# Altium integrated library Infineon_Power_DC-DC-Converter.IntLib: 32 symbols (part 3 of 3)
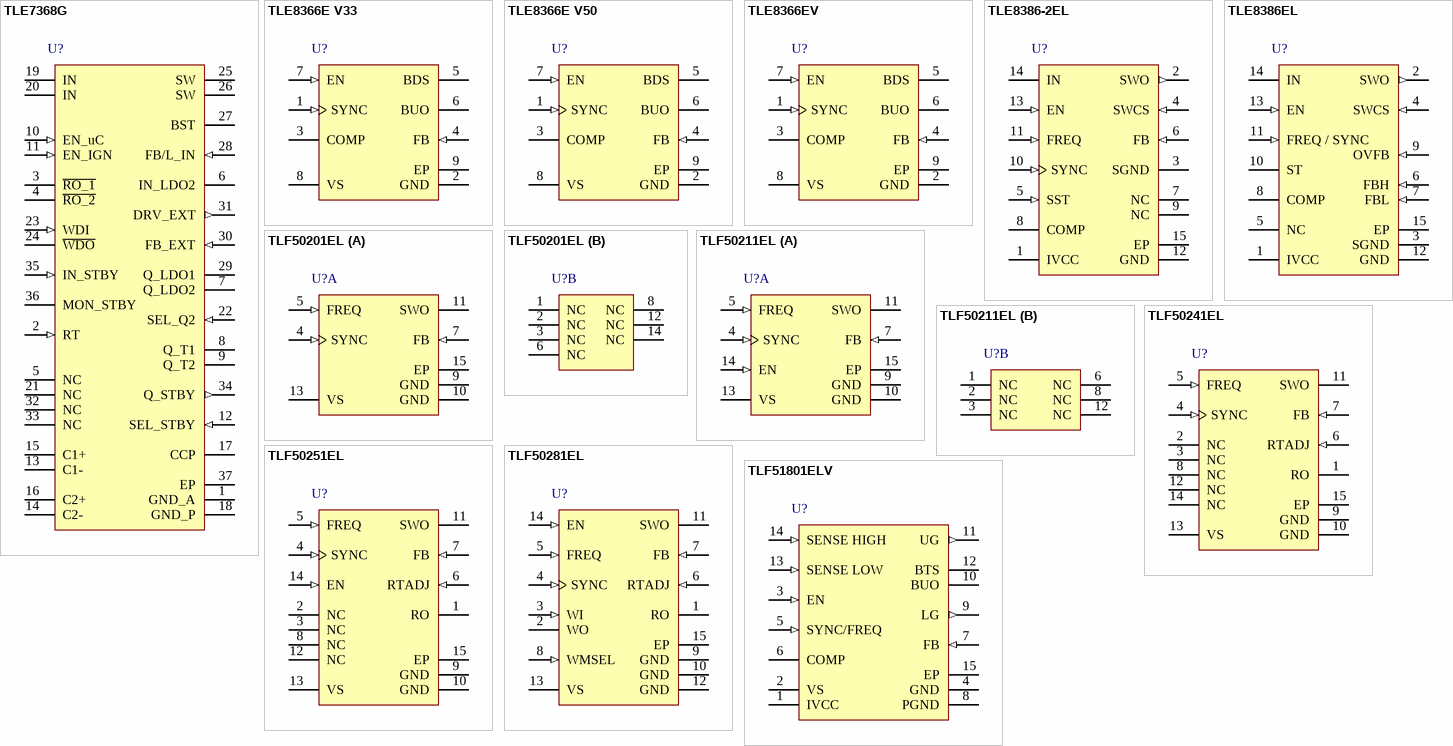
[diagram p3: symbols TLE7368G to TLF51801ELV]

## TLE7368G
designator U?
Next Generation Micro Controller Supply, -40 to 150 degC, PG-DSO-36-26, Reel; Manufacturer: Infineon; PartNumber: TLE7368G; Green: FALSE; IQ (max): 2,500 mA; Iq (typ): 120 uA; Output: Linear (Buck Preregulator); DatasheetVersion: Rev. 2.1; PackageVersion: Aug-09; PackageReference: PG-DSO-36-26; PackageDescription: 36-Pin Plastic (Green) Dual Small Outline Package, 15.9 x 11 mm Body, 0.65 mm Pitch; Supplier 1: Mouser; Supplier Part Number 1: 726-TLE7368G; Supplier 2: Digi-Key; Supplier Part Number 2: TLE7368GTR-ND; Supplier 3: Digi-Key; Supplier Part Number 3: TLE7368GCT-ND; Supplier 4: Digi-Key; Supplier Part Number 4: TLE7368GDKR-ND; Halogen-free: FALSE; Packing: Reel; Mounting Technology: Surface Mount; ComponentLink1Description: Manufacturer URL; ComponentLink1URL: http://www.infineon.com/; ComponentLink2Description: Datasheet; ComponentLink2URL: http://www.infineon.com/dgdl/DCDC-Converter-TLE7368-Data-Sheet-V21-Infineon.pdf?folderId=db3a304314dca3890115039cf70d0bf0&fileId=db3a3043163797a601163918026f01cf&location=en.Products.Power_Management_ICs.DC_DC.DC_DC-Converter__Automotive_.DATASHEET.DCDC-Converter-TLE7368-Data-Sheet-V21-Infineon.pdf; ComponentLink3Description: Package Specification; ComponentLink3URL: http://www.infineon.com/dgdl/ITS4880R_DS_11.pdf?folderId=db3a304412b407950112b408e8c90004&fileId=db3a304412b407950112b4295fb340cf&sId=db3a30433db6f09f013dc85930135028
footprint INF-PG-DSO-36-26_N (SOP, 36-Leads, Body 15.9x11mm, Pitch 0.65mm, Thermal Pad 16x6mm, IPC Medium Density)
footprint INF-PG-DSO-36-26_L (SOP, 36-Leads, Body 15.9x11mm, Pitch 0.65mm, Thermal Pad 16x6mm, IPC High Density)
footprint INF-PG-DSO-36-26_M (SOP, 36-Leads, Body 15.9x11mm, Pitch 0.65mm, Thermal Pad 16x6mm, IPC Low Density)
pins: 1 GND_A (power) "Analog ground connection; Connect to heatslug resp. exposed pad.", 2 RT (in) "Reset and watchdog timing pin; Connect a ceramic capacitor to GND to determine the time base for the reset delay circuits and the watchdog cycle time", 3 ~{RO_1} (oc) "Reset output Q_LDO1; Open drain output, active low. Connect an external 10 kOhm pull-up resistor to microcontroller I/O voltage.", 4 ~{RO_2} (oc) "Reset output Q_LDO2 and FB_EXT; Open drain output, active low. Connect an external 10 kOhm pull-up resistor to microcontroller I/O voltage", 5 NC "Internally not connected; Connect to GND_A", 6 IN_LDO2 (power) "LDO2 input; Connect this pin straight to the Buck converter output or add a dropper in between to reduce power dissipation on the chip.", 7 Q_LDO2 (power) "Voltage regulator 2 output; 3.3 V or 2.6 V, depending on the state of SEL_LDO2. Block to GND with capacitor for stable regulator operation; selection of capacitor CQ_LDO2 according to Chapter 4.4 and Chapter 6.", 8 Q_T1 (power) "Tracking regulator 1 output; Block to GND with capacitor for stable regulator operation; selection of capacitor CQ_T1 according to Chapter 4.4 and Chapter 6.", 9 Q_T2 (power) "Tracking regulator 2 output; Block to GND with capacitor for stable regulator operation; selection of capacitor CQ_T2 according to Chapter 4.4 and Chapter 6.", 10 EN_uC (in) "Enable input microcontroller; High level enables / low level disables the IC except the stand-by regulators; Integrated pull-down resistor", 11 EN_IGN (in) "Enable input ignition line; High level enables / low level disables the IC except the stand-by regulators; Integrated pull-down resistor", 12 SEL_STBY (in) "Selection input for stand-by regulator; Connect to GND to select 2.6 V output voltage for Q_STBY; Connect straight to Q_STBY to select 1.0 V output voltage for Q_STBY", 13 C1- "Charge pump negative #1; Connect a ceramic capacitor 100 nF, to C1+", 14 C2- "Charge pump negative #2; Connect a ceramic capacitor 100 nF, to C2+", 15 C1+ "Charge pump negative #1; Connect a ceramic capacitor 100 nF, to C1-", 16 C2+ "Charge pump negative #2; Connect a ceramic capacitor 100 nF, to C2-", 17 CCP (power) "Charge pump output; Connect a ceramic capacitor, 220 nF, to GND; Used for internal IC supply, do not use for other circuitry.", 18 GND_P (power) "Power ground; Exclusive GND connection of charge pump; Connect this pin to the power ground star point on the PCB.", 19 IN (power) "Buck regulator input; Connect to a pi-filter (or if not used to battery) with short lines; connect filter capacitors in any case with short lines; connect a small ceramic directly at the pin; For details refer to Chapter 6. (See Datasheet)", 20 IN (power) "Buck regulator input; Connect to a pi-filter (or if not used to battery) with short lines; connect filter capacitors in any case with short lines; connect a small ceramic directly at the pin; For details refer to Chapter 6. (See Datasheet)", 21 NC "Internally not connected; Connect to GND_A.", 22 SEL_Q2 (in) "Selection input LDO2; Connect to GND to select 2.6 V output voltage for LDO2; Connect straight to Q_LDO2 to select 3.3 V output voltage for LDO2.", 23 WDI (in) "Window Watchdog input; Apply a watchdog trigger signal to this pin", 24 ~{WDO} (oc) "Window Watchdog output; Open drain output, active low, connect external 10 kOhm pull-up resistor to microcontroller I/O voltage", 25 SW (power) "Buck power stage¡¯s output; Connect both pins directly, on short lines, to the Buck converter circuit, i.e. the catch diode and the Buck inductance", 26 SW (power) "Buck power stage¡¯s output; Connect both pins directly, on short lines, to the Buck converter circuit, i.e. the catch diode and the Buck inductance", 27 BST (power) "Bootstrap driver supply input; Connect the buck power stage¡¯s driver supply capacitor to the SW pins; For capacitor selection please refer to Chapter 6", 28 FB/L_IN (in) "Buck converter feedback input plus input for LDO1 and trackers; Connect the output of the buck converter circuit with short lines to these pins; For Buck output capacitor selection please refer to Chapter 6.", 29 Q_LDO1 (power) "Voltage regulator 1 output; 5 V output; Block to GND with capacitor for stable regulator operation; Selection of capacitor CQ_LDO1 according to Chapter 4.4 and Chapter 6.", 30 FB_EXT (in) "External regulator feedback input; Feedback input of control loop for the external power stage regulator. Connect to the emitter of the regulating transistor; Block to GND with capacitor for stable regulator operation; (See Datasheet)", 31 DRV_EXT (out) "Bipolar power stage driver output; Connect the base of an external NPN transistor directly to this pin; Regarding choice of the external power stage refer to Chapter 6.", 32 NC "Internally not connected; Connect to GND_A.", 33 NC "Internally not connected; Connect to GND_A.", 34 Q_STBY (out) "Stand-by regulator output; Output voltage depending on the state of SEL_STBY; Block to GND with capacitor for stable regulator operation; Selection of capacitor CQ_STBY according to Chapter 4.4 and Chapter 6.", 35 IN_STBY (in) "Input to stand-by regulator; Always connect the reverse polarity protected battery line to this pin; Input to all IC internal biasing circuits; Block to GND directly at the IC with ceramic capacitor; For proper choice of (See Datasheet)", 36 MON_STBY (oc) "Monitoring output for stand-by regulator; power fail active low output with special timing, open drain, connect external pull-up resistor.", 37 EP (power)

## TLE8366E V33
designator U?
1.8 A DC/DC Step-Down Voltage Regulator, -40 to 150 degC, PG-DSO-8-27, Reel, Green; Manufacturer: Infineon; PartNumber: TLE8366E V33; Green: TRUE; IQ (max): 1,800 mA; Iq (typ): 7,000 uA; Output: Buck Converter; Tolerance: 2(4)%; VQ (max): 3.3V; DatasheetVersion: Rev. 1.0; PackageVersion: Jun-12; PackageReference: PG-DSO-8-27; PackageDescription: 8-Pin Plastic (Green) Dual Small Outline Package, 4.9 x 3.9 mm Body, 1.27 mm Pitch; Supplier 1: Mouser; Supplier Part Number 1: 726-TLE8366EV33; Supplier 2: Digi-Key; Supplier Part Number 2: TLE8366E V33-ND; Halogen-free: TRUE; Packing: Reel; Mounting Technology: Surface Mount; Code_JEDEC: MS-012; ComponentLink1Description: Manufacturer URL; ComponentLink1URL: http://www.infineon.com/; ComponentLink2Description: Datasheet; ComponentLink2URL: http://www.infineon.com/dgdl/TLE8366_DS_10.pdf?folderId=db3a30431400ef68011421b54e2e0564&fileId=db3a30432239cccd012259aa3a916bd0&location=en.Products.Power_Management_ICs.DC_DC.DC_DC-Converter__Automotive_.DATASHEET.TLE8366_DS_10.pdf; ComponentLink3Description: Package Specification; ComponentLink3URL: http://www.infineon.com/dgdl/ILD4071_DS_V10_November2011.pdf?folderId=db3a30431f848401011fcbf2ab4c04c4&fileId=db3a30433784a04001380498fdf04c32
footprint INF-PG-DSO-8-27_N (SOP, 8-Leads, Body 4.9x3.9mm, Pitch 1.27mm, Thermal Pad 3.2x2.85mm, IPC Medium Density)
footprint INF-PG-DSO-8-27_L (SOP, 8-Leads, Body 4.9x3.9mm, Pitch 1.27mm, Thermal Pad 3.2x2.85mm, IPC High Density)
footprint INF-PG-DSO-8-27_M (SOP, 8-Leads, Body 4.9x3.9mm, Pitch 1.27mm, Thermal Pad 3.2x2.85mm, IPC Low Density)
pins: 1 SYNC (in) "Synchronization Input. Connect to an external clock signal in order to synchronize/adjust the switching frequency. If not used connect to GND.", 2 GND (power) "Ground.", 3 COMP "Compensation Input. Frequency compensation for regulation loop stability. Connect to compensation RC-network.", 4 FB (in) "Feedback Input. For the adjustable output voltage versions (TLE8366EV) connect via voltage divider to output capacitor. For the fixed voltage version (TLE8366EV50, TLE8366EV33) connect this pin directly to the output (See Datasheet)", 5 BDS (power) "Buck Driver Supply Input. Connect the bootstrap capacitor between this pin and pin BUO.", 6 BUO (power) "Buck Switch Output. Source of the integrated power-DMOS transistor. Connect directly to the cathode of the catch diode and the buck circuit inductance.", 7 EN (in) "Enable Input. Active-high enable input with integrated pull down resistor.", 8 VS (power) "Supply Voltage Input. Connect to supply voltage source.", 9 EP (power) "Connect to heatsink area and GND by low inductance wiring."

## TLE8366E V50
designator U?
1.8 A DC/DC Step-Down Voltage Regulator, -40 to 150 degC, PG-DSO-8-27, Reel, Green; Manufacturer: Infineon; PartNumber: TLE8366E V50; Green: TRUE; IQ (max): 1,800 mA; Iq (typ): 7,000 uA; Output: Buck Converter; Tolerance: 2(4)%; VQ (max): 5V; DatasheetVersion: Rev. 1.0; PackageVersion: Jun-12; PackageReference: PG-DSO-8-27; PackageDescription: 8-Pin Plastic (Green) Dual Small Outline Package, 4.9 x 3.9 mm Body, 1.27 mm Pitch; Supplier 1: Mouser; Supplier Part Number 1: 726-TLE8366EV50; Supplier 2: Digi-Key; Supplier Part Number 2: TLE8366E V50-ND; Halogen-free: TRUE; Packing: Reel; Mounting Technology: Surface Mount; Code_JEDEC: MS-012; ComponentLink1Description: Manufacturer URL; ComponentLink1URL: http://www.infineon.com/; ComponentLink2Description: Datasheet; ComponentLink2URL: http://www.infineon.com/dgdl/TLE8366_DS_10.pdf?folderId=db3a30431400ef68011421b54e2e0564&fileId=db3a30432239cccd012259aa3a916bd0&location=en.Products.Power_Management_ICs.DC_DC.DC_DC-Converter__Automotive_.DATASHEET.TLE8366_DS_10.pdf; ComponentLink3Description: Package Specification; ComponentLink3URL: http://www.infineon.com/dgdl/ILD4071_DS_V10_November2011.pdf?folderId=db3a30431f848401011fcbf2ab4c04c4&fileId=db3a30433784a04001380498fdf04c32
footprint INF-PG-DSO-8-27_N (SOP, 8-Leads, Body 4.9x3.9mm, Pitch 1.27mm, Thermal Pad 3.2x2.85mm, IPC Medium Density)
footprint INF-PG-DSO-8-27_L (SOP, 8-Leads, Body 4.9x3.9mm, Pitch 1.27mm, Thermal Pad 3.2x2.85mm, IPC High Density)
footprint INF-PG-DSO-8-27_M (SOP, 8-Leads, Body 4.9x3.9mm, Pitch 1.27mm, Thermal Pad 3.2x2.85mm, IPC Low Density)
pins: 1 SYNC (in) "Synchronization Input. Connect to an external clock signal in order to synchronize/adjust the switching frequency. If not used connect to GND.", 2 GND (power) "Ground.", 3 COMP "Compensation Input. Frequency compensation for regulation loop stability. Connect to compensation RC-network.", 4 FB (in) "Feedback Input. For the adjustable output voltage versions (TLE8366EV) connect via voltage divider to output capacitor. For the fixed voltage version (TLE8366EV50, TLE8366EV33) connect this pin directly to the output (See Datasheet)", 5 BDS (power) "Buck Driver Supply Input. Connect the bootstrap capacitor between this pin and pin BUO.", 6 BUO (power) "Buck Switch Output. Source of the integrated power-DMOS transistor. Connect directly to the cathode of the catch diode and the buck circuit inductance.", 7 EN (in) "Enable Input. Active-high enable input with integrated pull down resistor.", 8 VS (power) "Supply Voltage Input. Connect to supply voltage source.", 9 EP (power) "Connect to heatsink area and GND by low inductance wiring."

## TLE8366EV
designator U?
1.8 A DC/DC Step-Down Voltage Regulator, -40 to 150 degC, PG-DSO-8-27, Reel, Green; Manufacturer: Infineon; PartNumber: TLE8366EV; Green: TRUE; IQ (max): 1,800 mA; Iq (typ): 7,000 uA; Output: Buck Converter; Tolerance: 2(4)%; VQ (max): adjustable; DatasheetVersion: Rev. 1.0; PackageVersion: Jun-12; PackageReference: PG-DSO-8-27; PackageDescription: 8-Pin Plastic (Green) Dual Small Outline Package, 4.9 x 3.9 mm Body, 1.27 mm Pitch; Supplier 1: Mouser; Supplier Part Number 1: 726-TLE8366EV; Supplier 2: Digi-Key; Supplier Part Number 2: TLE8366EV-ND; Halogen-free: TRUE; Packing: Reel; Mounting Technology: Surface Mount; Code_JEDEC: MS-012; ComponentLink1Description: Manufacturer URL; ComponentLink1URL: http://www.infineon.com/; ComponentLink2Description: Datasheet; ComponentLink2URL: http://www.infineon.com/dgdl/TLE8366_DS_10.pdf?folderId=db3a30431400ef68011421b54e2e0564&fileId=db3a30432239cccd012259aa3a916bd0&location=en.Products.Power_Management_ICs.DC_DC.DC_DC-Converter__Automotive_.DATASHEET.TLE8366_DS_10.pdf; ComponentLink3Description: Package Specification; ComponentLink3URL: http://www.infineon.com/dgdl/ILD4071_DS_V10_November2011.pdf?folderId=db3a30431f848401011fcbf2ab4c04c4&fileId=db3a30433784a04001380498fdf04c32
footprint INF-PG-DSO-8-27_N (SOP, 8-Leads, Body 4.9x3.9mm, Pitch 1.27mm, Thermal Pad 3.2x2.85mm, IPC Medium Density)
footprint INF-PG-DSO-8-27_L (SOP, 8-Leads, Body 4.9x3.9mm, Pitch 1.27mm, Thermal Pad 3.2x2.85mm, IPC High Density)
footprint INF-PG-DSO-8-27_M (SOP, 8-Leads, Body 4.9x3.9mm, Pitch 1.27mm, Thermal Pad 3.2x2.85mm, IPC Low Density)
pins: 1 SYNC (in) "Synchronization Input. Connect to an external clock signal in order to synchronize/adjust the switching frequency.  If not used connect to GND.", 2 GND (power) "Ground.", 3 COMP "Compensation Input. Frequency compensation for regulation loop stability.  Connect to compensation RC-network.", 4 FB (in) "Feedback Input. For the adjustable output voltage versions (TLE8366EV) connect via voltage divider to output  capacitor.  For the fixed voltage version (TLE8366EV50, TLE8366EV33) connect this pin directly to the  output (See Datasheet)", 5 BDS (power) "Buck Driver Supply Input. Connect the bootstrap capacitor between this pin and pin BUO.", 6 BUO (power) "Buck Switch Output. Source of the integrated power-DMOS transistor. Connect directly to the cathode of the catch  diode and the buck circuit inductance.", 7 EN (in) "Enable Input. Active-high enable input with integrated pull down resistor.", 8 VS (power) "Supply Voltage Input. Connect to supply voltage source.", 9 EP (power) "Connect to heatsink area and GND by low inductance wiring."

## TLE8386-2EL
designator U?
Basic Smart Boost Controller, -40 to 150 degC, PG-SSOP-14, Reel, Green; Manufacturer: Infineon; PartNumber: TLE8386-2EL; Green: TRUE; Iq (typ): 7,000 uA; Output: Boost Converter; Tolerance: 4; VQ (max): adj (max 9-times of VS); DatasheetVersion: Rev. 1.0; PackageVersion: Oct-08; PackageReference: PG-SSOP-14; PackageDescription: 14-Pin Plastic (Green) Shrink Small Outline Package, 4.9 x 3.9 mm Body, 0.65 mm Pitch; Supplier 1: Mouser; Supplier Part Number 1: 726-TLE8386-2EL; Supplier 2: Digi-Key; Supplier Part Number 2: TLE8386-2EL-ND; Halogen-free: TRUE; Packing: Reel; Mounting Technology: Surface Mount; ComponentLink1Description: Manufacturer URL; ComponentLink1URL: http://www.infineon.com/; ComponentLink2Description: Datasheet; ComponentLink2URL: http://www.infineon.com/dgdl/TLE8386-2-DS1.pdf?folderId=db3a30431400ef68011421b54e2e0564&fileId=db3a30432d081e66012d133e99316be2&location=en.Products.Power_Management_ICs.DC_DC.DC_DC-Converter__Automotive_.DATASHEET.TLE8386-2-DS1.pdf; ComponentLink3Description: Package Specification; ComponentLink3URL: http://www.infineon.com/dgdl/ILD1151-Data-Sheet-11-Infineon.pdf?folderId=db3a30431f848401011fcbf2ab4c04c4&fileId=db3a304330046413013031216f2b20e1&location=en.Products.LED_Drivers___Lighting_ICs.LED_Driver_for_Outdoor_Lighting___Indoor_Lighting.LED_Driver__Product_portfolio_and_Information.DATASHEET.ILD1151-Data-Sheet-11-Infineon.pdf
footprint INF-PG-SSOP-14_N (SOP, 14-Leads, Body 4.9x3.9mm, Pitch 0.65mm, Thermal Pad 3.2x2.75mm, IPC Medium Density)
footprint INF-PG-SSOP-14_L (SOP, 14-Leads, Body 4.9x3.9mm, Pitch 0.65mm, Thermal Pad 3.2x2.85mm, IPC High Density)
footprint INF-PG-SSOP-14_M (SOP, 14-Leads, Body 4.9x3.9mm, Pitch 0.65mm, Thermal Pad 3.2x2.55mm, IPC Low Density)
pins: 1 IVCC (power) "Internal LDO Output; Used for internal biasing and gate drive. Do not leave open, bypass with external  capacitor. Do not connect other circuitry to this pin.", 2 SWO (out) "Switch Output; Connect to gate of external boost converter switching MOSFET", 3 SGND (power) "Current Sense Ground; Ground return for current sense switch,connect to bottom side of sense resistor.", 4 SWCS (in) "Current Sense Input;Detects the peak current through switch, connect to high side of sense resistor.", 5 SST (in) "Soft Start; Connect an external capacitor to adjust the soft start ramp, do not leave open.", 6 FB (in) "Feedback; Output voltage feedback, connect to output voltage via resistor divider from output  capacitor to ground.", 7 NC "Not Connected", 8 COMP "Compensation Input; Connect R and C network to pin for stability of the regulation loop.", 9 NC "Not Connected", 10 SYNC (in) "Sync; Synchronization Input, if feature synchronization is not used, leave open.", 11 FREQ (in) "Frequency Select Input;Connect external resistor to GND to set frequency, do not leave open.", 12 GND (power) "Ground; Connect to system ground.", 13 EN (in) "Enable; Apply logic high signal to enable device.", 14 IN (power) "Supply Input; Supply for internal biasing, connect to input voltage.", 15 EP (power) "Connect to GND."

## TLE8386EL
designator U?
Smart Boost Controller, -40 to 150 degC, PG-SSOP-14, Reel, Green; Manufacturer: Infineon; PartNumber: TLE8386EL; Green: TRUE; Iq (typ): 7,000 uA; Output: Boost Converter; Tolerance: 4; VQ (max): adj (max 9-times of VS); DatasheetVersion: Rev. 1.0; PackageVersion: Oct-08; PackageReference: PG-SSOP-14; PackageDescription: 14-Pin Plastic (Green) Shrink Small Outline Package, 4.9 x 3.9 mm Body, 0.65 mm Pitch; Supplier 1: Mouser; Supplier Part Number 1: 726-TLE8386EL; Supplier 2: Digi-Key; Supplier Part Number 2: TLE8386EL-ND; Halogen-free: TRUE; Packing: Reel; Mounting Technology: Surface Mount; ComponentLink1Description: Manufacturer URL; ComponentLink1URL: http://www.infineon.com/; ComponentLink2Description: Datasheet; ComponentLink2URL: http://www.infineon.com/dgdl/TLE8386-DS1.pdf?folderId=db3a30431400ef68011421b54e2e0564&fileId=db3a30432d081e66012d137b2a7c6bf6&location=en.Products.Power_Management_ICs.DC_DC.DC_DC-Converter__Automotive_.DATASHEET.TLE8386-DS1.pdf; ComponentLink3Description: Package Specification; ComponentLink3URL: http://www.infineon.com/dgdl/ILD1151-Data-Sheet-11-Infineon.pdf?folderId=db3a30431f848401011fcbf2ab4c04c4&fileId=db3a304330046413013031216f2b20e1&location=en.Products.LED_Drivers___Lighting_ICs.LED_Driver_for_Outdoor_Lighting___Indoor_Lighting.LED_Driver__Product_portfolio_and_Information.DATASHEET.ILD1151-Data-Sheet-11-Infineon.pdf
footprint INF-PG-SSOP-14_N (SOP, 14-Leads, Body 4.9x3.9mm, Pitch 0.65mm, Thermal Pad 3.2x2.75mm, IPC Medium Density)
footprint INF-PG-SSOP-14_L (SOP, 14-Leads, Body 4.9x3.9mm, Pitch 0.65mm, Thermal Pad 3.2x2.85mm, IPC High Density)
footprint INF-PG-SSOP-14_M (SOP, 14-Leads, Body 4.9x3.9mm, Pitch 0.65mm, Thermal Pad 3.2x2.55mm, IPC Low Density)
pins: 1 IVCC (power) "Internal LDO Output; Used for internal biasing and gate drive. Bypass with external capacitor. Do not  leave pin IVCC open.", 2 SWO (out) "Switch Output; Connect to gate of external boost converter switching MOSFET", 3 SGND (power) "Current Sense Ground; Ground return for current sense switch", 4 SWCS (in) "Current Sense Input; Detects the peak current through switch", 5 NC "No Connect", 6 FBH (in) "Voltage Feedback Positive; Non inverting Input (+)", 7 FBL (in) "Voltage Feedback Negative; Inverting Input (-)", 8 COMP "Compensation Input; Connect R and C network to pin for stability", 9 OVFB (in) "Output Overvoltage Protection Feedback; Connect to resistive voltage divider to set overvoltage threshold.", 10 ST (oc) "Status Output; Open drain diagnostic output to indicate fault condition.  Connect pull up resistor to pin.", 11 FREQ / SYNC (in) "Frequency Select or Synchronization Input; Connect external resistor to GND to set frequency. Or apply external clock signal for synchronization within frequency capture range.", 12 GND (power) "Ground; Connect to system ground.", 13 EN (in) "Enable; Apply logic high signal to enable device.", 14 IN (power) "Supply Input; Supply for internal biasing.", 15 EP (power) "Connect to GND."

## TLF50201EL
designator U?
2.2 MHz Step-Down Regulator 500 mA, 5 V, Low quiescent current, 45 uA Iq, -40 to 150 degC, PG-SSOP-14, Reel, Green; Manufacturer: Infineon; PartNumber: TLF50201EL; Green: TRUE; IQ (max): 500 mA; Iq (typ): 45 uA; Output: Buck Converter; Tolerance: 2%; VQ (max): 5V; DatasheetVersion: Rev. 1.0; PackageVersion: Oct-08; PackageReference: PG-SSOP-14-1; PackageDescription: 14-Pin Plastic (Green) Shrink Small Outline Package, 4.9 x 3.9 mm Body, 0.65 mm Pitch; Supplier 1: Mouser; Supplier Part Number 1: N/A; Halogen-free: TRUE; Mounting: SMT; Packing: Reel; Mounting Technology: Surface Mount; ComponentLink1Description: Manufacturer URL; ComponentLink1URL: http://www.infineon.com/; ComponentLink2Description: Datasheet; ComponentLink2URL: http://www.infineon.com/dgdl/TLF50201EL-Data-Sheet-1.0-Infineon.pdf?folderId=db3a30433fa9412f013fc33267de1e10&fileId=db3a30433fa9412f013fc3658dfb1ec9&ack=t; ComponentLink3Description: Package Specification; ComponentLink3URL: http://www.infineon.com/dgdl/PG-SSOP-14-1%2C-2%2C-3%2C-5-Package_Overview.pdf?folderId=db3a304327b897500127f79f69566553&fileId=db3a3043422231a901422ce38a900db8
footprint INF-PG-SSOP-14-1_N (SOP, 14-Leads, Body 4.9x3.9mm, Pitch 0.65mm, Thermal Pad 3.2x2.85mm, IPC Medium Density)
footprint INF-PG-SSOP-14-1_L (SOP, 14-Leads, Body 4.9x3.9mm, Pitch 0.65mm, Thermal Pad 3.2x2.85mm, IPC High Density)
footprint INF-PG-SSOP-14-1_M (SOP, 14-Leads, Body 4.9x3.9mm, Pitch 0.65mm, Thermal Pad 3.2x2.85mm, IPC Low Density)
part A pins: 4 SYNC (in) "Synchronization Input:Connect to an external clock signal in order to synchronize/adjust the switching frequency. This feature is not functionally in PFM mode.", 5 FREQ (in) "Frequency Adjustment Pin:Connect an external resistor to GND to adjust the switching frequency, do not leave open. In case the synchronization option is used, the resistor must be dimensioned close to the desired synchronization frequency.", 7 FB (in) "Feedback Input:Connect this pin directly to the output capacitor. Also input for internal power supply. The internal power supply is taken from the output voltage.", 9 GND (power) "Ground:Connect this pin directly with low inductive and broad trace to ground, do not leave open.", 10 GND (power) "Ground:Connect this pin directly with low inductive and broad trace to ground, do not leave open.", 11 SWO (oe) "Buck Switch Output:Drain of the integrated power-PMOS transistor. Connect directly to the cathode of the catch diode and the buck circuit inductance.", 13 VS (power) "Supply Voltage Input:Connect to supply voltage source.", 15 EP (power) "Connect to heatsink area and GND by low inductance wiring."
part B pins: 1 NC "Not Connected:Internally not connected. Leave open or connect to GND.", 2 NC "Not Connected:Internally not connected. Leave open or connect to GND.", 3 NC "Not Connected:Internally not connected. Leave open or connect to GND.", 6 NC "Not Connected:Internally not connected. Leave open or connect to GND.", 8 NC "Not Connected:Internally not connected. Leave open or connect to GND.", 12 NC "Not Connected:Internally not connected. Leave open or connect to GND.", 14 NC "Not Connected:Internally not connected. Leave open or connect to GND."

## TLF50211EL
designator U?
2.2 MHz Step-Down Regulator 500 mA, 5 V, Low quiescent current, 45 uA Iq, -40 to 150 degC, PG-SSOP-14, Reel, Green; Manufacturer: Infineon; PartNumber: TLF50211EL; Green: TRUE; IQ (max): 500 mA; Iq (typ): 45 uA; Output: Buck Converter; Tolerance: 2%; VQ (max): 5V; DatasheetVersion: Rev. 1.0; PackageVersion: Oct-08; PackageReference: PG-SSOP-14-1; PackageDescription: 14-Pin Plastic (Green) Shrink Small Outline Package, 4.9 x 3.9 mm Body, 0.65 mm Pitch; Supplier 1: Mouser; Supplier Part Number 1: N/A; Halogen-free: TRUE; Mounting: SMT; Packing: Reel; Mounting Technology: Surface Mount; ComponentLink1Description: Manufacturer URL; ComponentLink1URL: http://www.infineon.com/; ComponentLink2Description: Datasheet; ComponentLink2URL: http://www.infineon.com/dgdl/TLF50211EL-Data-Sheet-1.0-Infineon.pdf?folderId=db3a30433fa9412f013fc33267de1e10&fileId=db3a30433fa9412f013fc371cfce1f1b&ack=t; ComponentLink3Description: Package Specification; ComponentLink3URL: http://www.infineon.com/dgdl/PG-SSOP-14-1%2C-2%2C-3%2C-5-Package_Overview.pdf?folderId=db3a304327b897500127f79f69566553&fileId=db3a3043422231a901422ce38a900db8
footprint INF-PG-SSOP-14-1_N (SOP, 14-Leads, Body 4.9x3.9mm, Pitch 0.65mm, Thermal Pad 3.2x2.85mm, IPC Medium Density)
footprint INF-PG-SSOP-14-1_L (SOP, 14-Leads, Body 4.9x3.9mm, Pitch 0.65mm, Thermal Pad 3.2x2.85mm, IPC High Density)
footprint INF-PG-SSOP-14-1_M (SOP, 14-Leads, Body 4.9x3.9mm, Pitch 0.65mm, Thermal Pad 3.2x2.85mm, IPC Low Density)
part A pins: 4 SYNC (in) "Synchronization Input, Connect to an external clock signal in order to synchronize/adjust the switching frequency. This feature is not functionally in PFM mode", 5 FREQ (in) "Frequency Adjustment Pin,Connect an external resistor to GND to adjust the switching frequency, do not leave open. Incase the synchronization option is used, the resistor must be dimensioned close to the desired (See Datasheet)", 7 FB (in) "Feedback Input, Connect this pin directly to the output capacitor. Also input for internal power supply. The internal power supply is taken from the output voltage", 9 GND (power) "Ground, Connect this pin directly with low inductive and broad trace to ground, do not leave open.", 10 GND (power) "Ground, Connect this pin directly with low inductive and broad trace to ground, do not leave open.", 11 SWO (oe) "Buck Switch Output, Drain of the integrated power-PMOS transistor. Connect directly to the cathode of the catchdiode and the buck circuit inductance", 13 VS (power) "Supply Voltage Input, Connect to supply voltage source.", 14 EN (in) "Enable Input, Switch to high level to enable the device, switch to low level to disable the device.", 15 EP (power) "Connect to heatsink area and GND by low inductance wiring."
part B pins: 1 NC "Not Connected. Internally not connected. Leave open or connect to GND", 2 NC "Not Connected. Internally not connected. Leave open or connect to GND", 3 NC "Not Connected. Internally not connected. Leave open or connect to GND", 6 NC "Not Connected. Internally not connected. Leave open or connect to GND", 8 NC "Not Connected. Internally not connected. Leave open or connect to GND", 12 NC "Not Connected. Internally not connected. Leave open or connect to GND"

## TLF50241EL
designator U?
2.2 MHz Step-Down Regulator 500 mA, 5 V, Low quiescent current, 45 uA Iq, -40 to 150 degC, PG-SSOP-14, Reel, Green; Manufacturer: Infineon; PartNumber: TLF50241EL; Green: TRUE; IQ (max): 500 mA; Iq (typ): 45 uA; Output: Buck Converter; Tolerance: 2%; VQ (max): 5V; DatasheetVersion: Rev. 1.0; PackageVersion: Oct-08; PackageReference: PG-SSOP-14-1; PackageDescription: 14-Pin Plastic (Green) Shrink Small Outline Package, 4.9 x 3.9 mm Body, 0.65 mm Pitch; Supplier 1: Mouser; Supplier Part Number 1: N/A; Halogen-free: TRUE; Mounting: SMT; Packing: Reel; Mounting Technology: Surface Mount; ComponentLink1Description: Manufacturer URL; ComponentLink1URL: http://www.infineon.com/; ComponentLink2Description: Datasheet; ComponentLink2URL: http://www.infineon.com/dgdl/TLF50241EL-Data-Sheet-1.0-Infineon.pdf?folderId=db3a30433fa9412f013fc33267de1e10&fileId=db3a30433fa9412f013fc3778e8f1f49&ack=t; ComponentLink3Description: Package Specification; ComponentLink3URL: http://www.infineon.com/dgdl/PG-SSOP-14-1%2C-2%2C-3%2C-5-Package_Overview.pdf?folderId=db3a304327b897500127f79f69566553&fileId=db3a3043422231a901422ce38a900db8
footprint INF-PG-SSOP-14-1_N (SOP, 14-Leads, Body 4.9x3.9mm, Pitch 0.65mm, Thermal Pad 3.2x2.85mm, IPC Medium Density)
footprint INF-PG-SSOP-14-1_L (SOP, 14-Leads, Body 4.9x3.9mm, Pitch 0.65mm, Thermal Pad 3.2x2.85mm, IPC High Density)
footprint INF-PG-SSOP-14-1_M (SOP, 14-Leads, Body 4.9x3.9mm, Pitch 0.65mm, Thermal Pad 3.2x2.85mm, IPC Low Density)
pins: 1 RO (oc) "Reset Output:Provides the reset output signal. Open collector output, connect a pull up resistor to VCC or another voltage source, if feature is used, if not, leave open.", 2 NC "Not Connected:Internally not connected. Leave open or connect to GND.", 3 NC "Not Connected:Internally not connected. Leave open or connect to GND.", 4 SYNC (in) "Synchronization Input:Connect to an external clock signal in order to synchronize/adjust the switching frequency. This feature is not functionally in PFM mode.", 5 FREQ (in) "Frequency Adjustment Pin:Connect an external resistor to GND to adjust the switching frequency, do not leave open. In case the synchronization option is used, the resistor must be dimensioned close to the desired synchronization frequency.", 6 RTADJ (in) "Reset Threshold Adjust Pin:Connect an external resistor divider to adjust the Reset threshold. If function is not used, connect to VCC .", 7 FB (in) "Feedback Input:Connect this pin directly to the output capacitor. Also input for internal power supply. The internal power supply is taken from the output voltage.", 8 NC "Not Connected:Internally not connected. Leave open or connect to GND.", 9 GND (power) "Ground:Connect this pin directly with low inductive and broad trace to ground, do not leave open.", 10 GND (power) "Ground:Connect this pin directly with low inductive and broad trace to ground, do not leave open.", 11 SWO (oe) "Buck Switch Output:Drain of the integrated power-PMOS transistor. Connect directly to the cathode of the catch diode and the buck circuit inductance.", 12 NC "Not Connected:Internally not connected. Leave open or connect to GND.", 13 VS (power) "Supply Voltage Input:Connect to supply voltage source.", 14 NC "Not Connected:Internally not connected. Leave open or connect to GND.", 15 EP (power) "Connect to heatsink area and GND by low inductance wiring."

## TLF50251EL
designator U?
2.2 MHz Step-Down Regulator 500 mA, 5 V, Low quiescent current, 45 uA Iq, -40 to 150 degC, PG-SSOP-14, Reel, Green; Manufacturer: Infineon; PartNumber: TLF50251EL; Green: TRUE; IQ (max): 500 mA; Iq (typ): 45 uA; Output: Buck Converter; Tolerance: 2%; VQ (max): 5V; DatasheetVersion: Rev. 1.0; PackageVersion: Oct-08; PackageReference: PG-SSOP-14-1; PackageDescription: 14-Pin Plastic (Green) Shrink Small Outline Package, 4.9 x 3.9 mm Body, 0.65 mm Pitch; Supplier 1: Mouser; Supplier Part Number 1: N/A; Halogen-free: TRUE; Mounting: SMT; Packing: Reel; Mounting Technology: Surface Mount; ComponentLink1Description: Manufacturer URL; ComponentLink1URL: http://www.infineon.com/; ComponentLink2Description: Datasheet; ComponentLink2URL: http://www.infineon.com/dgdl/TLF50251EL-Data-Sheet-1.0-Infineon.pdf?folderId=db3a30433fa9412f013fc33267de1e10&fileId=db3a30433fa9412f013fc36d26f01eef&ack=t; ComponentLink3Description: Package Specification; ComponentLink3URL: http://www.infineon.com/dgdl/PG-SSOP-14-1%2C-2%2C-3%2C-5-Package_Overview.pdf?folderId=db3a304327b897500127f79f69566553&fileId=db3a3043422231a901422ce38a900db8
footprint INF-PG-SSOP-14-1_N (SOP, 14-Leads, Body 4.9x3.9mm, Pitch 0.65mm, Thermal Pad 3.2x2.85mm, IPC Medium Density)
footprint INF-PG-SSOP-14-1_L (SOP, 14-Leads, Body 4.9x3.9mm, Pitch 0.65mm, Thermal Pad 3.2x2.85mm, IPC High Density)
footprint INF-PG-SSOP-14-1_M (SOP, 14-Leads, Body 4.9x3.9mm, Pitch 0.65mm, Thermal Pad 3.2x2.85mm, IPC Low Density)
pins: 1 RO (oc) "Reset Output:Provides the reset output signal. Open collector output, connect a pull up resistor to VCC or another voltage source, if feature is used, if not, leave open.", 2 NC "Not Connected:Internally not connected. Leave open or connect to GND.", 3 NC "Not Connected:Internally not connected. Leave open or connect to GND.", 4 SYNC (in) "Synchronization Input:Connect to an external clock signal in order to synchronize/adjust the switching frequency. This feature is not functionally in PFM mode.", 5 FREQ (in) "Frequency Adjustment Pin:Connect an external resistor to GND to adjust the switching frequency, do not leave open. In case the synchronization option is used, the resistor must be dimensioned close to the desired (See Datasheet)", 6 RTADJ (in) "Reset Threshold Adjust Pin:Connect an external resistor divider to adjust the Reset threshold. If function is not used, connect to VCC .", 7 FB (in) "Feedback Input:Connect this pin directly to the output capacitor. Also input for internal power supply. The internal power supply is taken from the output voltage.", 8 NC "Not Connected:Internally not connected. Leave open or connect to GND.", 9 GND (power) "Ground:Connect this pin directly with low inductive and broad trace to ground, do not leave open.", 10 GND (power) "Ground:Connect this pin directly with low inductive and broad trace to ground, do not leave open.", 11 SWO (oe) "Buck Switch Output:Drain of the integrated power-PMOS transistor. Connect directly to the cathode of the catch diode and the buck circuit inductance.", 12 NC "Not Connected:Internally not connected. Leave open or connect to GND.", 13 VS (power) "Supply Voltage Input:Connect to supply voltage source.", 14 EN (in) "Enable Input:Switch to high level to enable the device, switch to low level to disable the device.", 15 EP (power) "Connect to heatsink area and GND by low inductance wiring."

## TLF50281EL
designator U?
2.2 MHz Step-Down Regulator 500 mA, Low Quiescent Current, -40 to 150 degC, PG-SSOP-14, Reel, Green; Manufacturer: Infineon; PartNumber: TLF50281EL; Green: TRUE; IQ (max): 500 mA; Iq (typ): 45 uA; Output: Buck Converter; Tolerance: 2%; VQ (max): 5V; DatasheetVersion: Rev. 1.0; PackageVersion: Oct-08; PackageReference: PG-SSOP-14; PackageDescription: 14-Pin Plastic (Green) Shrink Small Outline Package, 4.9 x 3.9 mm Body, 0.65 mm Pitch; Halogen-free: TRUE; Packing: Reel; Mounting Technology: Surface Mount; ComponentLink1Description: Manufacturer URL; ComponentLink1URL: http://www.infineon.com/; ComponentLink2Description: Datasheet; ComponentLink2URL: http://www.infineon.com/dgdl/TLF50281_DS_10.pdf?folderId=db3a304412b407950112b408e8c90004&fileId=db3a3043338c8ac80133a1a032874fbe&location=en.Products.Power_Management_ICs.DC_DC.DC_DC-Converter__Automotive_.DATASHEET.TLF50281_DS_10.pdf; ComponentLink3Description: Package Specification; ComponentLink3URL: http://www.infineon.com/dgdl/ILD1151-Data-Sheet-11-Infineon.pdf?folderId=db3a30431f848401011fcbf2ab4c04c4&fileId=db3a304330046413013031216f2b20e1&location=en.Products.LED_Drivers___Lighting_ICs.LED_Driver_for_Outdoor_Lighting___Indoor_Lighting.LED_Driver__Product_portfolio_and_Information.DATASHEET.ILD1151-Data-Sheet-11-Infineon.pdf
footprint INF-PG-SSOP-14_N (SOP, 14-Leads, Body 4.9x3.9mm, Pitch 0.65mm, Thermal Pad 3.2x2.75mm, IPC Medium Density)
footprint INF-PG-SSOP-14_L (SOP, 14-Leads, Body 4.9x3.9mm, Pitch 0.65mm, Thermal Pad 3.2x2.85mm, IPC High Density)
footprint INF-PG-SSOP-14_M (SOP, 14-Leads, Body 4.9x3.9mm, Pitch 0.65mm, Thermal Pad 3.2x2.55mm, IPC Low Density)
pins: 1 RO (oc) "Reset Output Provides the reset output signal. Open collector output, connect a pull up resistor to V CC or  another voltage source, if feature is used, if not, leave open. Might be connected in parallel with  pin WO, if (See Datasheet)", 2 WO (oc) "Watchdog Output Provides the watchdog output signal. Open collector output, connect a pull up resistor to V CC or  another voltage source, if feature is used, if not, leave open. Might be connected in parallel with  pin RO, (See Datasheet)", 3 WI (in) "Watchdog Input Connect Watchdog Input signal, if feature is used. If not used, connect to GND", 4 SYNC (in) "Synchronization Input Connect to an external clock signal in order to synchronize/adjust the switching frequency. This  feature is not functionally in PFM mode.", 5 FREQ (in) "Frequency Adjustment Pin Connect an external resistor to GND to adjust the switching frequency, do not leave open. In  case the synchronization option is used, the resistor must be dimensioned close to the desired  (See Datasheet)", 6 RTADJ (in) "Reset Threshold Adjust Pin Connect an external resistor divider to adjust the Reset threshold. If function is not used, connect  to VCC .", 7 FB (in) "Feedback Input Connect this pin directly to the output capacitor. Also input for internal power supply. The internal  power supply is taken from the output voltage.", 8 WMSEL (in) "Watchdog Mode Select Pin Connect to V CC for Watchdog slow mode or to GND for Watchdog fast mode. If not used, connect  to GND to avoid EMC related influence to Watchdog function.", 9 GND (power) "Ground Connect this pin directly with low inductive and broad trace to ground, do not leave open.", 10 GND (power) "Ground Connect this pin directly with low inductive and broad trace to ground, do not leave open.", 11 SWO (oc) "Buck Switch Output Drain of the integrated power-PMOS transistor. Connect directly to the cathode of the catch  diode and the buck circuit inductance.", 12 GND (power) "Ground Connect this pin directly with low inductive and broad trace to ground, do not leave open.", 13 VS (power) "Supply Voltage Input Connect to supply voltage source.", 14 EN (in) "Enable Input Switch to high level to enable the device, switch to low level to disable the device.", 15 EP (power) "Connect to heatsink area and GND by low inductance wiring."

## TLF51801ELV
designator U?
10 A Synchronous DC/DC Step-Down Controller, -40 to 150 degC, PG-SSOP-14, Reel, Green; Manufacturer: Infineon; PartNumber: TLF51801ELV; Green: TRUE; IQ (max): 10 mA; Output: Buck Controller; Tolerance: 2%; VQ (max): 1.2 V - Dmax * Vs; DatasheetVersion: Rev. 1.0; PackageVersion: Oct-08; PackageReference: PG-SSOP-14; PackageDescription: 14-Pin Plastic (Green) Shrink Small Outline Package, 4.9 x 3.9 mm Body, 0.65 mm Pitch; Supplier 1: Mouser; Supplier Part Number 1: N/A; Halogen-free: TRUE; Packing: Reel; Mounting Technology: Surface Mount; ComponentLink1Description: Manufacturer URL; ComponentLink1URL: http://www.infineon.com/; ComponentLink2Description: Datasheet; ComponentLink2URL: http://www.infineon.com/dgdl/TLF51801ELV-Data-Sheet-10-Infineon.pdf?folderId=db3a30431400ef68011421b54e2e0564&fileId=db3a30433d68e984013d7dd2b9c85f36&location=en.Products.Power_Management_ICs.DC_DC.DC_DC-Converter__Automotive_.DATASHEET.TLF51801ELV-Data-Sheet-10-Infineon.pdf; ComponentLink3Description: Package Specification; ComponentLink3URL: http://www.infineon.com/dgdl/ILD1151-Data-Sheet-11-Infineon.pdf?folderId=db3a30431f848401011fcbf2ab4c04c4&fileId=db3a304330046413013031216f2b20e1&location=en.Products.LED_Drivers___Lighting_ICs.LED_Driver_for_Outdoor_Lighting___Indoor_Lighting.LED_Driver__Product_portfolio_and_Information.DATASHEET.ILD1151-Data-Sheet-11-Infineon.pdf
footprint INF-PG-SSOP-14_N (SOP, 14-Leads, Body 4.9x3.9mm, Pitch 0.65mm, Thermal Pad 3.2x2.75mm, IPC Medium Density)
footprint INF-PG-SSOP-14_L (SOP, 14-Leads, Body 4.9x3.9mm, Pitch 0.65mm, Thermal Pad 3.2x2.85mm, IPC High Density)
footprint INF-PG-SSOP-14_M (SOP, 14-Leads, Body 4.9x3.9mm, Pitch 0.65mm, Thermal Pad 3.2x2.55mm, IPC Low Density)
pins: 1 IVCC (power) "Internal Voltage Supply Output of the internal linear regulator, supply for low-side driver and through internal bootstrap  diode to high-side driver, connect a capacitor between this pin and GND", 2 VS (power) "Input Voltage Connect to input voltage for internal power supply", 3 EN (in) "Enable Input Active-high enable input with integrated pull down resistor", 4 GND (power) "Ground Connect to ground plane", 5 SYNC/FREQ (in) "Synchronization and Oscillator frequency set Input Connect to an external clock signal in order to synchronize/adjust the switching frequency  (SYNC-mode). Connect an external resistor to set the frequency (FREQ-mode)", 6 COMP "Compensation Input Frequency compensation for regulation loop stability Connect to compensation network", 7 FB (in) "Feedback Input Connect via voltage divider to output capacitor", 8 PGND (power) "Power Ground Connect to Ground plane", 9 LG (out) "Low-side MOSFET driver output Driving output for the low-side external power MOSFET, connect to gate", 10 BUO (power) "Buck Switch Out Connect this point between the switching transistors, floating ground for high-side driver", 11 UG (out) "Up-side MOSFET driver output Driving output for the high-side external power MOSFET, connect to gate", 12 BTS (power) "Buck Driver Supply Input Connect the bootstrap capacitor between this pin and pin BUO", 13 SENSE LOW (in) "Current sensing (low-side) input For Shunt-configuration connect a shunt resistor from senselow to input/battery voltage, for  Rdson-configuration connect to source of the high-side MOSFET", 14 SENSE HIGH (in) "Current sensing (high-side) input Connect a resistor between battery and this pin to adjust the current threshold for both Rdson  and Shunt configurations", 15 EP (power) "Connect to heatsink area and GND by low inductance wiring"